# Altium integrated library Resistors.IntLib: 4954 symbols (part 18 of 32)
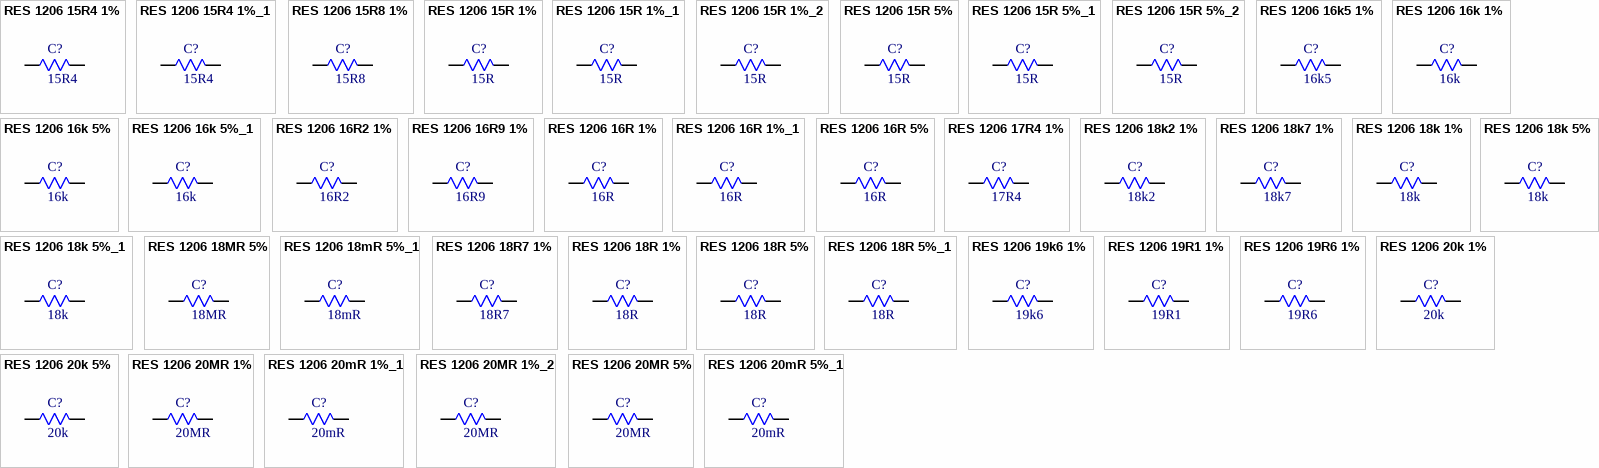
[diagram p140: symbols RES 1206 15R4 1% to RES 1206 20mR 5%_1]

## RES 1206 20MR 5%
designator C?, comment 20MR
20MR 5% 250mW 1206 Thick Film Resistor; Manufacturer: FOJAN; Manufacturer Part Number: FRG1206J206 TS; Voltage Rating: 200V; Supplier: LCSC; Supplier Part Number: C5126034; Resistance: 20MR; Tolerance: 5%; Power: 250mW
footprint RES SMD 1206
pins: 1, 2

## RES 1206 20mR 5%_1
designator C?, comment 20mR
20mR 250mW Thick Film Resistor 1200ppm/â„ƒ 5% 1206 Chip Resistor - Surface Mount RoHS; Manufacturer: FOJAN; Manufacturer Part Number: FRL1206JR020TS; Supplier: LCSC; Supplier Part Number: C7467502; Resistance: 20mR; Tolerance: 5%; Power: 250mW
footprint RES SMD 1206
pins: 1, 2

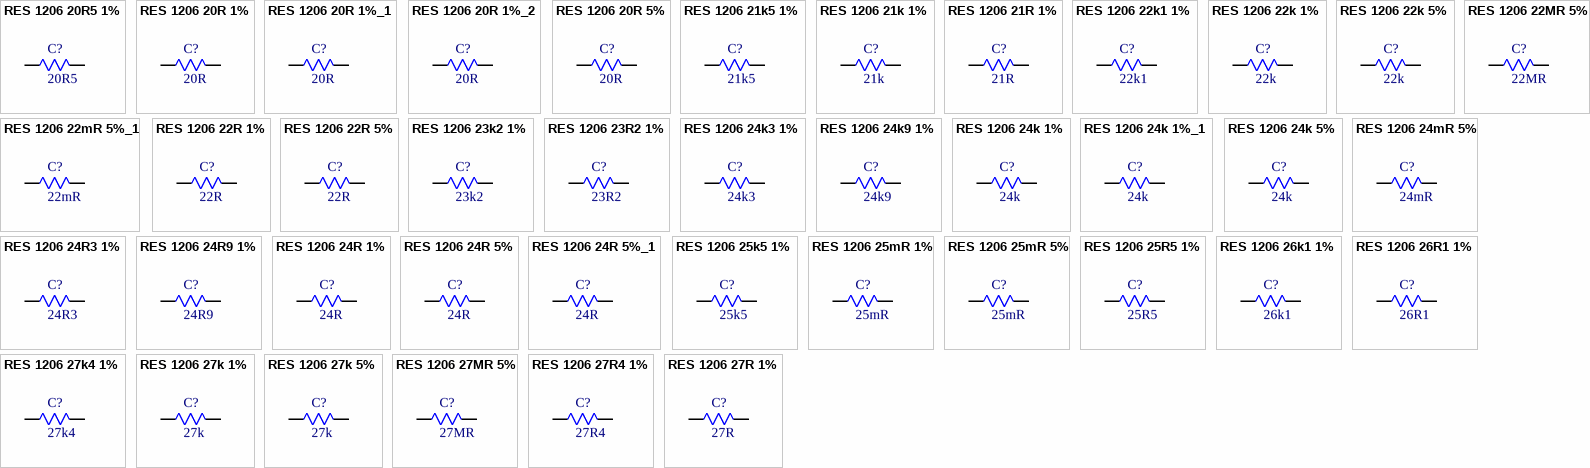
[diagram p68: symbols RES 1206 20R5 1% to RES 1206 27R 1%]

## RES 1206 20R5 1%
designator C?, comment 20R5
20.5R 1% 250mW 1206 Thick Film Resistor; Manufacturer: FOJAN; Manufacturer Part Number: FRC1206F20R5TS; Voltage Rating: 200V; Supplier: LCSC; Supplier Part Number: C2930417; Resistance: 20R5; Tolerance: 1%; Power: 250mW
footprint RES SMD 1206
pins: 1, 2

## RES 1206 20R 1%
designator C?, comment 20R
20R 1% 500mW 1206 Thick Film Resistor; Manufacturer: FOJAN; Manufacturer Part Number: FRP1206F20R0TS; Voltage Rating: 200V; Supplier: LCSC; Supplier Part Number: C5713418; Resistance: 20R; Tolerance: 1%; Power: 500mW
footprint RES SMD 1206
pins: 1, 2

## RES 1206 20R 1%_1
designator C?, comment 20R
20R 1% 250mW 1206 Thick Film Resistor; Manufacturer: FOJAN; Manufacturer Part Number: FRC1206F20R0TS; Voltage Rating: 200V; Supplier: LCSC; Supplier Part Number: C2933638; Resistance: 20R; Tolerance: 1%; Power: 250mW
footprint RES SMD 1206
pins: 1, 2

## RES 1206 20R 1%_2
designator C?, comment 20R
20R 250mW 200V Thick Film Resistor 1% 1206 Chip Resistor - Surface Mount RoHS; Manufacturer: FOJAN; Manufacturer Part Number: FRQ1206F20R0TS; Supplier: LCSC; Supplier Part Number: C51048301; Resistance: 20R; Tolerance: 1%; Voltage Rating: 200V; Power: 250mW
footprint RES SMD 1206
pins: 1, 2

## RES 1206 20R 5%
designator C?, comment 20R
20R 5% 250mW 1206 Thick Film Resistor; Manufacturer: FOJAN; Manufacturer Part Number: FRD1206J200 TS; Voltage Rating: 200V; Supplier: LCSC; Supplier Part Number: C2934206; Resistance: 20R; Tolerance: 5%; Power: 250mW
footprint RES SMD 1206
pins: 1, 2

## RES 1206 21k5 1%
designator C?, comment 21k5
21.5kR 250mW 200V Thick Film Resistor 1% 100ppm/â„ƒ 1206 Chip Resistor - Surface Mount RoHS; Manufacturer: FOJAN; Manufacturer Part Number: FRC1206F2152TS; Supplier: LCSC; Supplier Part Number: C7467334; Resistance: 21k5; Tolerance: 1%; Voltage Rating: 200V; Power: 250mW
footprint RES SMD 1206
pins: 1, 2

## RES 1206 21k 1%
designator C?, comment 21k
21kR 1% 250mW 1206 Thick Film Resistor; Manufacturer: FOJAN; Manufacturer Part Number: FRC1206F2102TS; Voltage Rating: 200V; Supplier: LCSC; Supplier Part Number: C3000607; Resistance: 21k; Tolerance: 1%; Power: 250mW
footprint RES SMD 1206
pins: 1, 2

## RES 1206 21R 1%
designator C?, comment 21R
21R 1% 250mW 1206 Thick Film Resistor; Manufacturer: FOJAN; Manufacturer Part Number: FRC1206F21R0TS; Voltage Rating: 200V; Supplier: LCSC; Supplier Part Number: C2933641; Resistance: 21R; Tolerance: 1%; Power: 250mW
footprint RES SMD 1206
pins: 1, 2

## RES 1206 22k1 1%
designator C?, comment 22k1
22.1kR 1% 250mW 1206 Thick Film Resistor; Manufacturer: FOJAN; Manufacturer Part Number: FRC1206F2212TS; Voltage Rating: 200V; Supplier: LCSC; Supplier Part Number: C2933645; Resistance: 22k1; Tolerance: 1%; Power: 250mW
footprint RES SMD 1206
pins: 1, 2

## RES 1206 22k 1%
designator C?, comment 22k
22kR 1% 250mW 1206 Thick Film Resistor; Manufacturer: FOJAN; Manufacturer Part Number: FRC1206F2202TS; Voltage Rating: 200V; Supplier: LCSC; Supplier Part Number: C2907375; Resistance: 22k; Tolerance: 1%; Power: 250mW
footprint RES SMD 1206
pins: 1, 2

## RES 1206 22k 5%
designator C?, comment 22k
22kR 5% 250mW 1206 Thick Film Resistor; Manufacturer: FOJAN; Manufacturer Part Number: FRC1206J223 TS; Voltage Rating: 200V; Supplier: LCSC; Supplier Part Number: C2907456; Resistance: 22k; Tolerance: 5%; Power: 250mW
footprint RES SMD 1206
pins: 1, 2

## RES 1206 22MR 5%
designator C?, comment 22MR
22MR 5% 250mW 1206 Thick Film Resistor; Manufacturer: FOJAN; Manufacturer Part Number: FRG1206J226TS; Voltage Rating: 200V; Supplier: LCSC; Supplier Part Number: C3000525; Resistance: 22MR; Tolerance: 5%; Power: 250mW
footprint RES SMD 1206
pins: 1, 2

## RES 1206 22mR 5%_1
designator C?, comment 22mR
22mR 250mW Thick Film Resistor 1200ppm/â„ƒ 5% 1206 Chip Resistor - Surface Mount RoHS; Manufacturer: FOJAN; Manufacturer Part Number: FRL1206JR022TS; Supplier: LCSC; Supplier Part Number: C7467500; Resistance: 22mR; Tolerance: 5%; Power: 250mW
footprint RES SMD 1206
pins: 1, 2

## RES 1206 22R 1%
designator C?, comment 22R
22R 1% 250mW 1206 Thick Film Resistor; Manufacturer: FOJAN; Manufacturer Part Number: FRC1206F22R0TS; Voltage Rating: 200V; Supplier: LCSC; Supplier Part Number: C2933647; Resistance: 22R; Tolerance: 1%; Power: 250mW
footprint RES SMD 1206
pins: 1, 2

## RES 1206 22R 5%
designator C?, comment 22R
22R 5% 250mW 1206 Thick Film Resistor; Manufacturer: FOJAN; Manufacturer Part Number: FRD1206J220 TS; Voltage Rating: 200V; Supplier: LCSC; Supplier Part Number: C2934211; Resistance: 22R; Tolerance: 5%; Power: 250mW
footprint RES SMD 1206
pins: 1, 2

## RES 1206 23k2 1%
designator C?, comment 23k2
23.2kR 1% 250mW 1206 Thick Film Resistor; Manufacturer: FOJAN; Manufacturer Part Number: FRC1206F2322TS; Voltage Rating: 200V; Supplier: LCSC; Supplier Part Number: C5159732; Resistance: 23k2; Tolerance: 1%; Power: 250mW
footprint RES SMD 1206
pins: 1, 2

## RES 1206 23R2 1%
designator C?, comment 23R2
23.2R 1% 250mW 1206 Thick Film Resistor; Manufacturer: FOJAN; Manufacturer Part Number: FRC1206F23R2TS; Voltage Rating: 200V; Supplier: LCSC; Supplier Part Number: C2933648; Resistance: 23R2; Tolerance: 1%; Power: 250mW
footprint RES SMD 1206
pins: 1, 2

## RES 1206 24k3 1%
designator C?, comment 24k3
24.3kR 1% 250mW 1206 Thick Film Resistor; Manufacturer: FOJAN; Manufacturer Part Number: FRC1206F2432TS; Voltage Rating: 200V; Supplier: LCSC; Supplier Part Number: C2933651; Resistance: 24k3; Tolerance: 1%; Power: 250mW
footprint RES SMD 1206
pins: 1, 2

## RES 1206 24k9 1%
designator C?, comment 24k9
24.9kR 1% 250mW 1206 Thick Film Resistor; Manufacturer: FOJAN; Manufacturer Part Number: FRC1206F2492TS; Voltage Rating: 200V; Supplier: LCSC; Supplier Part Number: C2930420; Resistance: 24k9; Tolerance: 1%; Power: 250mW
footprint RES SMD 1206
pins: 1, 2

## RES 1206 24k 1%
designator C?, comment 24k
24kR 1% 250mW 1206 Thick Film Resistor; Manufacturer: FOJAN; Manufacturer Part Number: FRC1206F2402TS; Voltage Rating: 200V; Supplier: LCSC; Supplier Part Number: C2907377; Resistance: 24k; Tolerance: 1%; Power: 250mW
footprint RES SMD 1206
pins: 1, 2

## RES 1206 24k 1%_1
designator C?, comment 24k
24kR 500mW 200V Thick Film Resistor 1% 1206 Chip Resistor - Surface Mount RoHS; Manufacturer: FOJAN; Manufacturer Part Number: FRP1206F2402TS; Supplier: LCSC; Supplier Part Number: C52033548; Resistance: 24k; Tolerance: 1%; Voltage Rating: 200V; Power: 500mW
footprint RES SMD 1206
pins: 1, 2

## RES 1206 24k 5%
designator C?, comment 24k
24kR 5% 250mW 1206 Thick Film Resistor; Manufacturer: FOJAN; Manufacturer Part Number: FRC1206J243 TS; Voltage Rating: 200V; Supplier: LCSC; Supplier Part Number: C2907460; Resistance: 24k; Tolerance: 5%; Power: 250mW
footprint RES SMD 1206
pins: 1, 2

## RES 1206 24mR 5%
designator C?, comment 24mR
250mW 24mR Thick Film Resistor 1200ppm/â„ƒ 5% 1206 Chip Resistor - Surface Mount RoHS; Manufacturer: FOJAN; Manufacturer Part Number: FRL1206JR024TS; Supplier: LCSC; Supplier Part Number: C7467517; Resistance: 24mR; Tolerance: 5%; Power: 250mW
footprint RES SMD 1206
pins: 1, 2

## RES 1206 24R3 1%
designator C?, comment 24R3
250mW 24.3R Thick Film Resistor 1% 100ppm/â„ƒ 1206 Chip Resistor - Surface Mount RoHS; Manufacturer: FOJAN; Manufacturer Part Number: FRC1206F24R3TS; Supplier: LCSC; Supplier Part Number: C7467296; Resistance: 24R3; Tolerance: 1%; Power: 250mW
footprint RES SMD 1206
pins: 1, 2

## RES 1206 24R9 1%
designator C?, comment 24R9
24.9R 1% 250mW 1206 Thick Film Resistor; Manufacturer: FOJAN; Manufacturer Part Number: FRC1206F24R9TS; Voltage Rating: 200V; Supplier: LCSC; Supplier Part Number: C5153988; Resistance: 24R9; Tolerance: 1%; Power: 250mW
footprint RES SMD 1206
pins: 1, 2

## RES 1206 24R 1%
designator C?, comment 24R
24R 1% 250mW 1206 Thick Film Resistor; Manufacturer: FOJAN; Manufacturer Part Number: FRC1206F24R0TS; Voltage Rating: 200V; Supplier: LCSC; Supplier Part Number: C2930421; Resistance: 24R; Tolerance: 1%; Power: 250mW
footprint RES SMD 1206
pins: 1, 2

## RES 1206 24R 5%
designator C?, comment 24R
24R 5% 250mW 1206 Thick Film Resistor; Manufacturer: FOJAN; Manufacturer Part Number: FRC1206J240 TS; Voltage Rating: 200V; Supplier: LCSC; Supplier Part Number: C2907461; Resistance: 24R; Tolerance: 5%; Power: 250mW
footprint RES SMD 1206
pins: 1, 2

## RES 1206 24R 5%_1
designator C?, comment 24R
24R 5% 250mW 1206 Thick Film Resistor; Manufacturer: FOJAN; Manufacturer Part Number: FRC1206J240TSD; Voltage Rating: 200V; Supplier: LCSC; Supplier Part Number: C2930361; Resistance: 24R; Tolerance: 5%; Power: 250mW
footprint RES SMD 1206
pins: 1, 2

## RES 1206 25k5 1%
designator C?, comment 25k5
25.5kR 1% 250mW 1206 Thick Film Resistor; Manufacturer: FOJAN; Manufacturer Part Number: FRC1206F2552TS; Voltage Rating: 200V; Supplier: LCSC; Supplier Part Number: C3000609; Resistance: 25k5; Tolerance: 1%; Power: 250mW
footprint RES SMD 1206
pins: 1, 2

## RES 1206 25mR 1%
designator C?, comment 25mR
25mR 250mW Thick Film Resistor 1200ppm/â„ƒ 1% 1206 Chip Resistor - Surface Mount RoHS; Manufacturer: FOJAN; Manufacturer Part Number: FRL1206FR025TS; Supplier: LCSC; Supplier Part Number: C7467303; Resistance: 25mR; Tolerance: 1%; Power: 250mW
footprint RES SMD 1206
pins: 1, 2

## RES 1206 25mR 5%
designator C?, comment 25mR
25mR 250mW Thick Film Resistor 1200ppm/â„ƒ 5% 1206 Chip Resistor - Surface Mount RoHS; Manufacturer: FOJAN; Manufacturer Part Number: FRL1206JR025TS; Supplier: LCSC; Supplier Part Number: C7467627; Resistance: 25mR; Tolerance: 5%; Power: 250mW
footprint RES SMD 1206
pins: 1, 2

## RES 1206 25R5 1%
designator C?, comment 25R5
250mW 25.5R 200V Thick Film Resistor 1% 100ppm/â„ƒ 1206 Chip Resistor - Surface Mount RoHS; Manufacturer: FOJAN; Manufacturer Part Number: FRC1206F25R5TS; Supplier: LCSC; Supplier Part Number: C7467464; Resistance: 25R5; Tolerance: 1%; Voltage Rating: 200V; Power: 250mW
footprint RES SMD 1206
pins: 1, 2

## RES 1206 26k1 1%
designator C?, comment 26k1
26.1kR 1% 250mW 1206 Thick Film Resistor; Manufacturer: FOJAN; Manufacturer Part Number: FRC1206F2612TS; Voltage Rating: 200V; Supplier: LCSC; Supplier Part Number: C2933653; Resistance: 26k1; Tolerance: 1%; Power: 250mW
footprint RES SMD 1206
pins: 1, 2

## RES 1206 26R1 1%
designator C?, comment 26R1
26.1R 1% 250mW 1206 Thick Film Resistor; Manufacturer: FOJAN; Manufacturer Part Number: FRC1206F26R1TS; Voltage Rating: 200V; Supplier: LCSC; Supplier Part Number: C2933654; Resistance: 26R1; Tolerance: 1%; Power: 250mW
footprint RES SMD 1206
pins: 1, 2

## RES 1206 27k4 1%
designator C?, comment 27k4
27.4kR 1% 250mW 1206 Thick Film Resistor; Manufacturer: FOJAN; Manufacturer Part Number: FRC1206F2742TS; Voltage Rating: 200V; Supplier: LCSC; Supplier Part Number: C2999476; Resistance: 27k4; Tolerance: 1%; Power: 250mW
footprint RES SMD 1206
pins: 1, 2

## RES 1206 27k 1%
designator C?, comment 27k
27kR 1% 250mW 1206 Thick Film Resistor; Manufacturer: FOJAN; Manufacturer Part Number: FRC1206F2702TS; Voltage Rating: 200V; Supplier: LCSC; Supplier Part Number: C2960927; Resistance: 27k; Tolerance: 1%; Power: 250mW
footprint RES SMD 1206
pins: 1, 2

## RES 1206 27k 5%
designator C?, comment 27k
27kR 5% 250mW 1206 Thick Film Resistor; Manufacturer: FOJAN; Manufacturer Part Number: FRC1206J273 TS; Voltage Rating: 200V; Supplier: LCSC; Supplier Part Number: C2907464; Resistance: 27k; Tolerance: 5%; Power: 250mW
footprint RES SMD 1206
pins: 1, 2

## RES 1206 27MR 5%
designator C?, comment 27MR
27MR 5% 250mW 1206 Thick Film Resistor; Manufacturer: FOJAN; Manufacturer Part Number: FRG1206J276 TS; Voltage Rating: 200V; Supplier: LCSC; Supplier Part Number: C5126112; Resistance: 27MR; Tolerance: 5%; Power: 250mW
footprint RES SMD 1206
pins: 1, 2

## RES 1206 27R4 1%
designator C?, comment 27R4
27.4R 1% 250mW 1206 Thick Film Resistor; Manufacturer: FOJAN; Manufacturer Part Number: FRC1206F27R4TS; Voltage Rating: 200V; Supplier: LCSC; Supplier Part Number: C3013249; Resistance: 27R4; Tolerance: 1%; Power: 250mW
footprint RES SMD 1206
pins: 1, 2

## RES 1206 27R 1%
designator C?, comment 27R
27R 1% 250mW 1206 Thick Film Resistor; Manufacturer: FOJAN; Manufacturer Part Number: FRC1206F27R0TS; Voltage Rating: 200V; Supplier: LCSC; Supplier Part Number: C2933656; Resistance: 27R; Tolerance: 1%; Power: 250mW
footprint RES SMD 1206
pins: 1, 2

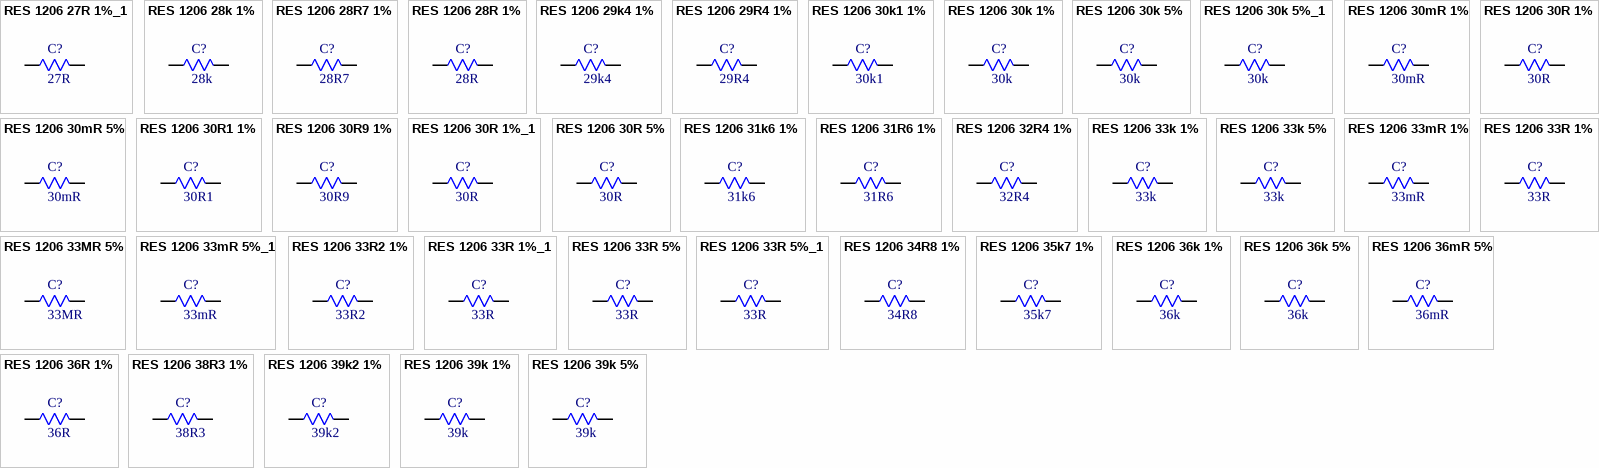
[diagram p69: symbols RES 1206 27R 1%_1 to RES 1206 39k 5%]

## RES 1206 27R 1%_1
designator C?, comment 27R
250mW 27R 200V Thick Film Resistor 1% 1206 Chip Resistor - Surface Mount RoHS; Manufacturer: FOJAN; Manufacturer Part Number: FRQ1206F27R0TS; Supplier: LCSC; Supplier Part Number: C51048245; Resistance: 27R; Tolerance: 1%; Voltage Rating: 200V; Power: 250mW
footprint RES SMD 1206
pins: 1, 2

## RES 1206 28k 1%
designator C?, comment 28k
28kR 1% 250mW 1206 Thick Film Resistor; Manufacturer: FOJAN; Manufacturer Part Number: FRC1206F2802TS; Voltage Rating: 200V; Supplier: LCSC; Supplier Part Number: C2999528; Resistance: 28k; Tolerance: 1%; Power: 250mW
footprint RES SMD 1206
pins: 1, 2

## RES 1206 28R7 1%
designator C?, comment 28R7
28.7R 1% 250mW 1206 Thick Film Resistor; Manufacturer: FOJAN; Manufacturer Part Number: FRC1206F28R7TS; Voltage Rating: 200V; Supplier: LCSC; Supplier Part Number: C5126060; Resistance: 28R7; Tolerance: 1%; Power: 250mW
footprint RES SMD 1206
pins: 1, 2

## RES 1206 28R 1%
designator C?, comment 28R
28R 1% 250mW 1206 Thick Film Resistor; Manufacturer: FOJAN; Manufacturer Part Number: FRC1206F28R0TS; Voltage Rating: 200V; Supplier: LCSC; Supplier Part Number: C2933658; Resistance: 28R; Tolerance: 1%; Power: 250mW
footprint RES SMD 1206
pins: 1, 2

## RES 1206 29k4 1%
designator C?, comment 29k4
29.4kR 1% 250mW 1206 Thick Film Resistor; Manufacturer: FOJAN; Manufacturer Part Number: FRC1206F2942TS; Voltage Rating: 200V; Supplier: LCSC; Supplier Part Number: C2999535; Resistance: 29k4; Tolerance: 1%; Power: 250mW
footprint RES SMD 1206
pins: 1, 2

## RES 1206 29R4 1%
designator C?, comment 29R4
29.4R 1% 250mW 1206 Thick Film Resistor; Manufacturer: FOJAN; Manufacturer Part Number: FRC1206F29R4TS; Voltage Rating: 200V; Supplier: LCSC; Supplier Part Number: C2933660; Resistance: 29R4; Tolerance: 1%; Power: 250mW
footprint RES SMD 1206
pins: 1, 2

## RES 1206 30k1 1%
designator C?, comment 30k1
250mW 30.1kR 200V Thick Film Resistor 100ppm/â„ƒ 1% 1206 Chip Resistor - Surface Mount RoHS; Manufacturer: FOJAN; Manufacturer Part Number: FRC1206F3012TS; Supplier: LCSC; Supplier Part Number: C48533691; Resistance: 30k1; Tolerance: 1%; Voltage Rating: 200V; Power: 250mW
footprint RES SMD 1206
pins: 1, 2

## RES 1206 30k 1%
designator C?, comment 30k
30kR 1% 250mW 1206 Thick Film Resistor; Manufacturer: FOJAN; Manufacturer Part Number: FRC1206F3002TS; Voltage Rating: 200V; Supplier: LCSC; Supplier Part Number: C2930422; Resistance: 30k; Tolerance: 1%; Power: 250mW
footprint RES SMD 1206
pins: 1, 2

## RES 1206 30k 5%
designator C?, comment 30k
30kR 5% 250mW 1206 Thick Film Resistor; Manufacturer: FOJAN; Manufacturer Part Number: FRC1206J303 TS; Voltage Rating: 200V; Supplier: LCSC; Supplier Part Number: C2907479; Resistance: 30k; Tolerance: 5%; Power: 250mW
footprint RES SMD 1206
pins: 1, 2

## RES 1206 30k 5%_1
designator C?, comment 30k
30kR 5% 500mW 1206 Thick Film Resistor; Manufacturer: FOJAN; Manufacturer Part Number: FRP1206J303 TS; Voltage Rating: 200V; Supplier: LCSC; Supplier Part Number: C3013378; Resistance: 30k; Tolerance: 5%; Power: 500mW
footprint RES SMD 1206
pins: 1, 2

## RES 1206 30mR 1%
designator C?, comment 30mR
30mR 250mW Thick Film Resistor 1200ppm/â„ƒ 1% 1206 Chip Resistor - Surface Mount RoHS; Manufacturer: FOJAN; Manufacturer Part Number: FRL1206FR030TS; Supplier: LCSC; Supplier Part Number: C7467634; Resistance: 30mR; Tolerance: 1%; Power: 250mW
footprint RES SMD 1206
pins: 1, 2

## RES 1206 30mR 5%
designator C?, comment 30mR
30mR 250mW Thick Film Resistor 1200ppm/â„ƒ 5% 1206 Chip Resistor - Surface Mount RoHS; Manufacturer: FOJAN; Manufacturer Part Number: FRL1206JR030TS; Supplier: LCSC; Supplier Part Number: C7467558; Resistance: 30mR; Tolerance: 5%; Power: 250mW
footprint RES SMD 1206
pins: 1, 2

## RES 1206 30R1 1%
designator C?, comment 30R1
30.1R 1% 250mW 1206 Thick Film Resistor; Manufacturer: FOJAN; Manufacturer Part Number: FRC1206F30R1TS; Voltage Rating: 200V; Supplier: LCSC; Supplier Part Number: C42372176; Resistance: 30R1; Tolerance: 1%; Power: 250mW
footprint RES SMD 1206
pins: 1, 2

## RES 1206 30R9 1%
designator C?, comment 30R9
30.9R 1% 250mW 1206 Thick Film Resistor; Manufacturer: FOJAN; Manufacturer Part Number: FRC1206F30R9TS; Voltage Rating: 200V; Supplier: LCSC; Supplier Part Number: C2960740; Resistance: 30R9; Tolerance: 1%; Power: 250mW
footprint RES SMD 1206
pins: 1, 2

## RES 1206 30R 1%
designator C?, comment 30R
30R 1% 250mW 1206 Thick Film Resistor; Manufacturer: FOJAN; Manufacturer Part Number: FRC1206F30R0TS; Voltage Rating: 200V; Supplier: LCSC; Supplier Part Number: C2930423; Resistance: 30R; Tolerance: 1%; Power: 250mW
footprint RES SMD 1206
pins: 1, 2

## RES 1206 30R 1%_1
designator C?, comment 30R
30R 1% 500mW 1206 Thick Film Resistor; Manufacturer: FOJAN; Manufacturer Part Number: FRP1206F30R0TS; Voltage Rating: 200V; Supplier: LCSC; Supplier Part Number: C5713419; Resistance: 30R; Tolerance: 1%; Power: 500mW
footprint RES SMD 1206
pins: 1, 2

## RES 1206 30R 5%
designator C?, comment 30R
30R 5% 250mW 1206 Thick Film Resistor; Manufacturer: FOJAN; Manufacturer Part Number: FRC1206J300 TS; Voltage Rating: 200V; Supplier: LCSC; Supplier Part Number: C2907480; Resistance: 30R; Tolerance: 5%; Power: 250mW
footprint RES SMD 1206
pins: 1, 2

## RES 1206 31k6 1%
designator C?, comment 31k6
250mW 31.6kR 200V Thick Film Resistor 1% 100ppm/â„ƒ 1206 Chip Resistor - Surface Mount RoHS; Manufacturer: FOJAN; Manufacturer Part Number: FRC1206F3162TS; Supplier: LCSC; Supplier Part Number: C7467453; Resistance: 31k6; Tolerance: 1%; Voltage Rating: 200V; Power: 250mW
footprint RES SMD 1206
pins: 1, 2

## RES 1206 31R6 1%
designator C?, comment 31R6
31.6R 1% 250mW 1206 Thick Film Resistor; Manufacturer: FOJAN; Manufacturer Part Number: FRC1206F31R6TS; Voltage Rating: 200V; Supplier: LCSC; Supplier Part Number: C2933674; Resistance: 31R6; Tolerance: 1%; Power: 250mW
footprint RES SMD 1206
pins: 1, 2

## RES 1206 32R4 1%
designator C?, comment 32R4
32.4R 1% 250mW 1206 Thick Film Resistor; Manufacturer: FOJAN; Manufacturer Part Number: FRC1206F32R4TS; Voltage Rating: 200V; Supplier: LCSC; Supplier Part Number: C2960783; Resistance: 32R4; Tolerance: 1%; Power: 250mW
footprint RES SMD 1206
pins: 1, 2

## RES 1206 33k 1%
designator C?, comment 33k
33kR 1% 250mW 1206 Thick Film Resistor; Manufacturer: FOJAN; Manufacturer Part Number: FRC1206F3302TS; Voltage Rating: 200V; Supplier: LCSC; Supplier Part Number: C2933676; Resistance: 33k; Tolerance: 1%; Power: 250mW
footprint RES SMD 1206
pins: 1, 2

## RES 1206 33k 5%
designator C?, comment 33k
33kR 5% 250mW 1206 Thick Film Resistor; Manufacturer: FOJAN; Manufacturer Part Number: FRC1206J333 TS; Voltage Rating: 200V; Supplier: LCSC; Supplier Part Number: C2907483; Resistance: 33k; Tolerance: 5%; Power: 250mW
footprint RES SMD 1206
pins: 1, 2

## RES 1206 33mR 1%
designator C?, comment 33mR
250mW 33mR Thick Film Resistor 1200ppm/â„ƒ 1% 1206 Chip Resistor - Surface Mount RoHS; Manufacturer: FOJAN; Manufacturer Part Number: FRL1206FR033TS; Supplier: LCSC; Supplier Part Number: C7467307; Resistance: 33mR; Tolerance: 1%; Power: 250mW
footprint RES SMD 1206
pins: 1, 2

## RES 1206 33MR 5%
designator C?, comment 33MR
33MR 5% 250mW 1206 Thick Film Resistor; Manufacturer: FOJAN; Manufacturer Part Number: FRG1206J336TS; Voltage Rating: 200V; Supplier: LCSC; Supplier Part Number: C3000700; Resistance: 33MR; Tolerance: 5%; Power: 250mW
footprint RES SMD 1206
pins: 1, 2

## RES 1206 33mR 5%_1
designator C?, comment 33mR
250mW 33mR Thick Film Resistor 1200ppm/â„ƒ 5% 1206 Chip Resistor - Surface Mount RoHS; Manufacturer: FOJAN; Manufacturer Part Number: FRL1206JR033TS; Supplier: LCSC; Supplier Part Number: C7467574; Resistance: 33mR; Tolerance: 5%; Power: 250mW
footprint RES SMD 1206
pins: 1, 2

## RES 1206 33R2 1%
designator C?, comment 33R2
33.2R 1% 250mW 1206 Thick Film Resistor; Manufacturer: FOJAN; Manufacturer Part Number: FRC1206F33R2TS; Voltage Rating: 200V; Supplier: LCSC; Supplier Part Number: C2999543; Resistance: 33R2; Tolerance: 1%; Power: 250mW
footprint RES SMD 1206
pins: 1, 2

## RES 1206 33R 1%
designator C?, comment 33R
33R 1% 250mW 1206 Thick Film Resistor; Manufacturer: FOJAN; Manufacturer Part Number: FRC1206F33R0TS; Voltage Rating: 200V; Supplier: LCSC; Supplier Part Number: C2907384; Resistance: 33R; Tolerance: 1%; Power: 250mW
footprint RES SMD 1206
pins: 1, 2

## RES 1206 33R 1%_1
designator C?, comment 33R
33R 1% 500mW 1206 Thick Film Resistor; Manufacturer: FOJAN; Manufacturer Part Number: FRP1206F33R0TS; Voltage Rating: 200V; Supplier: LCSC; Supplier Part Number: C5713420; Resistance: 33R; Tolerance: 1%; Power: 500mW
footprint RES SMD 1206
pins: 1, 2

## RES 1206 33R 5%
designator C?, comment 33R
33R 5% 250mW 1206 Thick Film Resistor; Manufacturer: FOJAN; Manufacturer Part Number: FRC1206J330 TS; Voltage Rating: 200V; Supplier: LCSC; Supplier Part Number: C2907484; Resistance: 33R; Tolerance: 5%; Power: 250mW
footprint RES SMD 1206
pins: 1, 2

## RES 1206 33R 5%_1
designator C?, comment 33R
33R 500mW Thick Film Resistor 200ppm/â„ƒ 5% 1206 Chip Resistor - Surface Mount RoHS; Manufacturer: FOJAN; Manufacturer Part Number: FRP1206J330 TS; Supplier: LCSC; Supplier Part Number: C7468091; Resistance: 33R; Tolerance: 5%; Power: 500mW
footprint RES SMD 1206
pins: 1, 2

## RES 1206 34R8 1%
designator C?, comment 34R8
34.8R 1% 250mW 1206 Thick Film Resistor; Manufacturer: FOJAN; Manufacturer Part Number: FRC1206F34R8TS; Voltage Rating: 200V; Supplier: LCSC; Supplier Part Number: C2933681; Resistance: 34R8; Tolerance: 1%; Power: 250mW
footprint RES SMD 1206
pins: 1, 2

## RES 1206 35k7 1%
designator C?, comment 35k7
35.7kR 1% 250mW 1206 Thick Film Resistor; Manufacturer: FOJAN; Manufacturer Part Number: FRC1206F3572TS; Voltage Rating: 200V; Supplier: LCSC; Supplier Part Number: C5126182; Resistance: 35k7; Tolerance: 1%; Power: 250mW
footprint RES SMD 1206
pins: 1, 2

## RES 1206 36k 1%
designator C?, comment 36k
500mW 36kR 200V Thick Film Resistor 200ppm/â„ƒ 1% 1206 Chip Resistor - Surface Mount RoHS; Manufacturer: FOJAN; Manufacturer Part Number: FRP1206F3602TS; Supplier: LCSC; Supplier Part Number: C49196875; Resistance: 36k; Tolerance: 1%; Voltage Rating: 200V; Power: 500mW
footprint RES SMD 1206
pins: 1, 2

## RES 1206 36k 5%
designator C?, comment 36k
36kR 5% 250mW 1206 Thick Film Resistor; Manufacturer: FOJAN; Manufacturer Part Number: FRC1206J363 TS; Voltage Rating: 200V; Supplier: LCSC; Supplier Part Number: C2907487; Resistance: 36k; Tolerance: 5%; Power: 250mW
footprint RES SMD 1206
pins: 1, 2

## RES 1206 36mR 5%
designator C?, comment 36mR
250mW 36mR Thick Film Resistor 1200ppm/â„ƒ 5% 1206 Chip Resistor - Surface Mount RoHS; Manufacturer: FOJAN; Manufacturer Part Number: FRL1206JR036TS; Supplier: LCSC; Supplier Part Number: C7467506; Resistance: 36mR; Tolerance: 5%; Power: 250mW
footprint RES SMD 1206
pins: 1, 2

## RES 1206 36R 1%
designator C?, comment 36R
36R 1% 250mW 1206 Thick Film Resistor; Manufacturer: FOJAN; Manufacturer Part Number: FRC1206F36R0TS; Voltage Rating: 200V; Supplier: LCSC; Supplier Part Number: C2907385; Resistance: 36R; Tolerance: 1%; Power: 250mW
footprint RES SMD 1206
pins: 1, 2

## RES 1206 38R3 1%
designator C?, comment 38R3
38.3R 1% 250mW 1206 Thick Film Resistor; Manufacturer: FOJAN; Manufacturer Part Number: FRC1206F38R3TS; Voltage Rating: 200V; Supplier: LCSC; Supplier Part Number: C2930425; Resistance: 38R3; Tolerance: 1%; Power: 250mW
footprint RES SMD 1206
pins: 1, 2

## RES 1206 39k2 1%
designator C?, comment 39k2
39.2kR 1% 250mW 1206 Thick Film Resistor; Manufacturer: FOJAN; Manufacturer Part Number: FRC1206F3922TS; Voltage Rating: 200V; Supplier: LCSC; Supplier Part Number: C3000747; Resistance: 39k2; Tolerance: 1%; Power: 250mW
footprint RES SMD 1206
pins: 1, 2

## RES 1206 39k 1%
designator C?, comment 39k
39kR 1% 250mW 1206 Thick Film Resistor; Manufacturer: FOJAN; Manufacturer Part Number: FRC1206F3902TS; Voltage Rating: 200V; Supplier: LCSC; Supplier Part Number: C2933691; Resistance: 39k; Tolerance: 1%; Power: 250mW
footprint RES SMD 1206
pins: 1, 2

## RES 1206 39k 5%
designator C?, comment 39k
39kR 5% 250mW 1206 Thick Film Resistor; Manufacturer: FOJAN; Manufacturer Part Number: FRC1206J393 TS; Voltage Rating: 200V; Supplier: LCSC; Supplier Part Number: C2907491; Resistance: 39k; Tolerance: 5%; Power: 250mW
footprint RES SMD 1206
pins: 1, 2

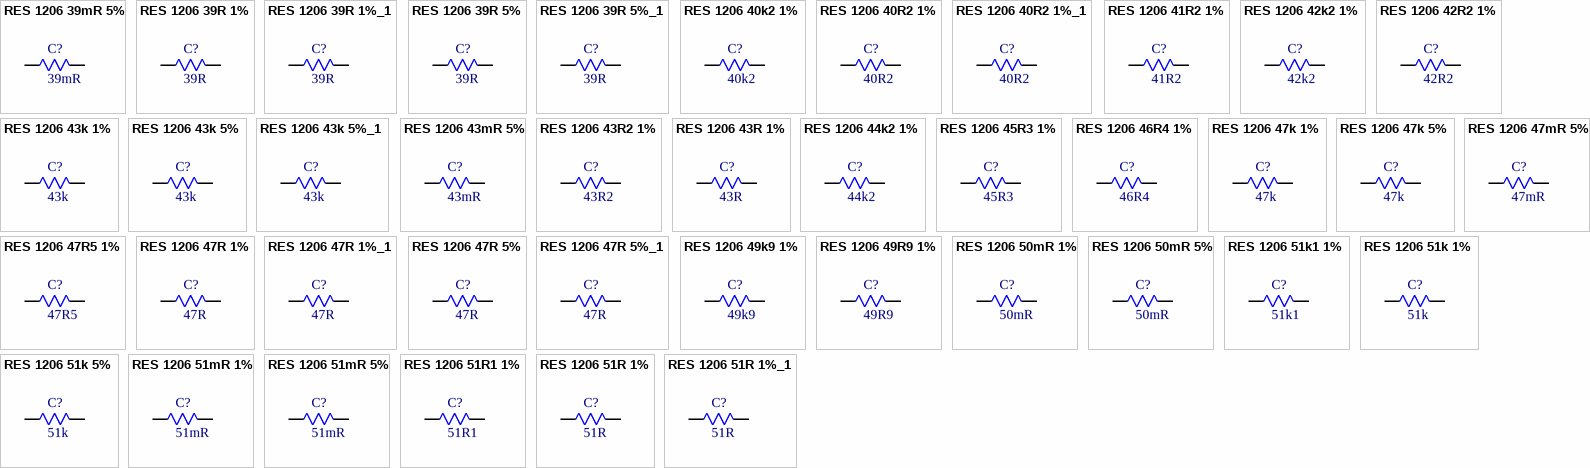
[diagram p70: symbols RES 1206 39mR 5% to RES 1206 51R 1%_1]

## RES 1206 39mR 5%
designator C?, comment 39mR
39mR 5% 250mW 1206 Thick Film Resistor; Manufacturer: FOJAN; Manufacturer Part Number: FRL1206JR039TS; Voltage Rating: 500V; Supplier: LCSC; Supplier Part Number: C5204044; Resistance: 39mR; Tolerance: 5%; Power: 250mW
footprint RES SMD 1206
pins: 1, 2

## RES 1206 39R 1%
designator C?, comment 39R
39R 1% 250mW 1206 Thick Film Resistor; Manufacturer: FOJAN; Manufacturer Part Number: FRC1206F39R0TS; Voltage Rating: 200V; Supplier: LCSC; Supplier Part Number: C2933694; Resistance: 39R; Tolerance: 1%; Power: 250mW
footprint RES SMD 1206
pins: 1, 2

## RES 1206 39R 1%_1
designator C?, comment 39R
39R 250mW 200V Thick Film Resistor 1% 1206 Chip Resistor - Surface Mount RoHS; Manufacturer: FOJAN; Manufacturer Part Number: FRQ1206F39R0TS; Supplier: LCSC; Supplier Part Number: C51048300; Resistance: 39R; Tolerance: 1%; Voltage Rating: 200V; Power: 250mW
footprint RES SMD 1206
pins: 1, 2

## RES 1206 39R 5%
designator C?, comment 39R
39R 5% 500mW 1206 Thick Film Resistor; Manufacturer: FOJAN; Manufacturer Part Number: FRP1206J390 TS; Voltage Rating: 200V; Supplier: LCSC; Supplier Part Number: C5713422; Resistance: 39R; Tolerance: 5%; Power: 500mW
footprint RES SMD 1206
pins: 1, 2

## RES 1206 39R 5%_1
designator C?, comment 39R
39R 250mW 200V Thick Film Resistor 5% 1206 Chip Resistor - Surface Mount RoHS; Manufacturer: FOJAN; Manufacturer Part Number: FRQ1206J390 TS; Supplier: LCSC; Supplier Part Number: C51048338; Resistance: 39R; Tolerance: 5%; Voltage Rating: 200V; Power: 250mW
footprint RES SMD 1206
pins: 1, 2

## RES 1206 40k2 1%
designator C?, comment 40k2
40.2kR 1% 250mW 1206 Thick Film Resistor; Manufacturer: FOJAN; Manufacturer Part Number: FRC1206F4022TS; Voltage Rating: 200V; Supplier: LCSC; Supplier Part Number: C5159734; Resistance: 40k2; Tolerance: 1%; Power: 250mW
footprint RES SMD 1206
pins: 1, 2

## RES 1206 40R2 1%
designator C?, comment 40R2
250mW 40.2R 200V Thick Film Resistor 1% 100ppm/â„ƒ 1206 Chip Resistor - Surface Mount RoHS; Manufacturer: FOJAN; Manufacturer Part Number: FRC1206F40R2TS; Supplier: LCSC; Supplier Part Number: C7467465; Resistance: 40R2; Tolerance: 1%; Voltage Rating: 200V; Power: 250mW
footprint RES SMD 1206
pins: 1, 2

## RES 1206 40R2 1%_1
designator C?, comment 40R2
40.2R 1% 500mW 1206 Thick Film Resistor; Manufacturer: FOJAN; Manufacturer Part Number: FRP1206F40R2TSN; Voltage Rating: 200V; Supplier: LCSC; Supplier Part Number: C2934389; Resistance: 40R2; Tolerance: 1%; Power: 500mW
footprint RES SMD 1206
pins: 1, 2

## RES 1206 41R2 1%
designator C?, comment 41R2
41.2R 1% 250mW 1206 Thick Film Resistor; Manufacturer: FOJAN; Manufacturer Part Number: FRC1206F41R2TS; Voltage Rating: 200V; Supplier: LCSC; Supplier Part Number: C2933703; Resistance: 41R2; Tolerance: 1%; Power: 250mW
footprint RES SMD 1206
pins: 1, 2

## RES 1206 42k2 1%
designator C?, comment 42k2
250mW 42.2kR 200V Thick Film Resistor 100ppm/â„ƒ 1% 1206 Chip Resistor - Surface Mount RoHS; Manufacturer: FOJAN; Manufacturer Part Number: FRC1206F4222TS; Supplier: LCSC; Supplier Part Number: C48533706; Resistance: 42k2; Tolerance: 1%; Voltage Rating: 200V; Power: 250mW
footprint RES SMD 1206
pins: 1, 2

## RES 1206 42R2 1%
designator C?, comment 42R2
42.2R 1% 250mW 1206 Thick Film Resistor; Manufacturer: FOJAN; Manufacturer Part Number: FRC1206F42R2TS; Voltage Rating: 200V; Supplier: LCSC; Supplier Part Number: C5126199; Resistance: 42R2; Tolerance: 1%; Power: 250mW
footprint RES SMD 1206
pins: 1, 2

## RES 1206 43k 1%
designator C?, comment 43k
43kR 1% 250mW 1206 Thick Film Resistor; Manufacturer: FOJAN; Manufacturer Part Number: FRC1206F4302TS; Voltage Rating: 200V; Supplier: LCSC; Supplier Part Number: C2930430; Resistance: 43k; Tolerance: 1%; Power: 250mW
footprint RES SMD 1206
pins: 1, 2

## RES 1206 43k 5%
designator C?, comment 43k
43kR 250mW 200V Thick Film Resistor 100ppm/â„ƒ 5% 1206 Chip Resistor - Surface Mount RoHS; Manufacturer: FOJAN; Manufacturer Part Number: FRR1206J433 TS; Supplier: LCSC; Supplier Part Number: C49196851; Resistance: 43k; Tolerance: 5%; Voltage Rating: 200V; Power: 250mW
footprint RES SMD 1206
pins: 1, 2

## RES 1206 43k 5%_1
designator C?, comment 43k
43kR 5% 250mW 1206 Thick Film Resistor; Manufacturer: FOJAN; Manufacturer Part Number: FRC1206J433 TS; Voltage Rating: 200V; Supplier: LCSC; Supplier Part Number: C2907503; Resistance: 43k; Tolerance: 5%; Power: 250mW
footprint RES SMD 1206
pins: 1, 2

## RES 1206 43mR 5%
designator C?, comment 43mR
250mW 43mR Thick Film Resistor 1200ppm/â„ƒ 5% 1206 Chip Resistor - Surface Mount RoHS; Manufacturer: FOJAN; Manufacturer Part Number: FRL1206JR043TS; Supplier: LCSC; Supplier Part Number: C7467495; Resistance: 43mR; Tolerance: 5%; Power: 250mW
footprint RES SMD 1206
pins: 1, 2

## RES 1206 43R2 1%
designator C?, comment 43R2
43.2R 1% 250mW 1206 Thick Film Resistor; Manufacturer: FOJAN; Manufacturer Part Number: FRC1206F43R2TS; Voltage Rating: 200V; Supplier: LCSC; Supplier Part Number: C5204022; Resistance: 43R2; Tolerance: 1%; Power: 250mW
footprint RES SMD 1206
pins: 1, 2

## RES 1206 43R 1%
designator C?, comment 43R
250mW 43R 200V Thick Film Resistor 100ppm/â„ƒ 1% 1206 Chip Resistor - Surface Mount RoHS; Manufacturer: FOJAN; Manufacturer Part Number: FRQ1206F43R0TS; Supplier: LCSC; Supplier Part Number: C49010141; Resistance: 43R; Tolerance: 1%; Voltage Rating: 200V; Power: 250mW
footprint RES SMD 1206
pins: 1, 2

## RES 1206 44k2 1%
designator C?, comment 44k2
44.2kR 1% 250mW 1206 Thick Film Resistor; Manufacturer: FOJAN; Manufacturer Part Number: FRC1206F4422TS; Voltage Rating: 200V; Supplier: LCSC; Supplier Part Number: C5126167; Resistance: 44k2; Tolerance: 1%; Power: 250mW
footprint RES SMD 1206
pins: 1, 2

## RES 1206 45R3 1%
designator C?, comment 45R3
45.3R 1% 250mW 1206 Thick Film Resistor; Manufacturer: FOJAN; Manufacturer Part Number: FRC1206F45R3TS; Voltage Rating: 200V; Supplier: LCSC; Supplier Part Number: C3013257; Resistance: 45R3; Tolerance: 1%; Power: 250mW
footprint RES SMD 1206
pins: 1, 2

## RES 1206 46R4 1%
designator C?, comment 46R4
46.4R 1% 250mW 1206 Thick Film Resistor; Manufacturer: FOJAN; Manufacturer Part Number: FRC1206F46R4TS; Voltage Rating: 200V; Supplier: LCSC; Supplier Part Number: C5153993; Resistance: 46R4; Tolerance: 1%; Power: 250mW
footprint RES SMD 1206
pins: 1, 2

## RES 1206 47k 1%
designator C?, comment 47k
47kR 1% 250mW 1206 Thick Film Resistor; Manufacturer: FOJAN; Manufacturer Part Number: FRC1206F4702TS; Voltage Rating: 200V; Supplier: LCSC; Supplier Part Number: C2933708; Resistance: 47k; Tolerance: 1%; Power: 250mW
footprint RES SMD 1206
pins: 1, 2

## RES 1206 47k 5%
designator C?, comment 47k
47kR 5% 250mW 1206 Thick Film Resistor; Manufacturer: FOJAN; Manufacturer Part Number: FRC1206J473 TS; Voltage Rating: 200V; Supplier: LCSC; Supplier Part Number: C2907507; Resistance: 47k; Tolerance: 5%; Power: 250mW
footprint RES SMD 1206
pins: 1, 2

## RES 1206 47mR 5%
designator C?, comment 47mR
47mR 5% 250mW 1206 Thick Film Resistor; Manufacturer: FOJAN; Manufacturer Part Number: FRL1206JR047TS; Voltage Rating: 500V; Supplier: LCSC; Supplier Part Number: C5713394; Resistance: 47mR; Tolerance: 5%; Power: 250mW
footprint RES SMD 1206
pins: 1, 2

## RES 1206 47R5 1%
designator C?, comment 47R5
250mW 47.5R 200V Thick Film Resistor 100ppm/â„ƒ 1% 1206 Chip Resistor - Surface Mount RoHS; Manufacturer: FOJAN; Manufacturer Part Number: FRC1206F47R5TS; Supplier: LCSC; Supplier Part Number: C22375122; Resistance: 47R5; Tolerance: 1%; Voltage Rating: 200V; Power: 250mW
footprint RES SMD 1206
pins: 1, 2

## RES 1206 47R 1%
designator C?, comment 47R
47R 1% 250mW 1206 Thick Film Resistor; Manufacturer: FOJAN; Manufacturer Part Number: FRC1206F47R0TS; Voltage Rating: 200V; Supplier: LCSC; Supplier Part Number: C2933712; Resistance: 47R; Tolerance: 1%; Power: 250mW
footprint RES SMD 1206
pins: 1, 2

## RES 1206 47R 1%_1
designator C?, comment 47R
250mW 47R 200V Thick Film Resistor 100ppm/â„ƒ 1% 1206 Chip Resistor - Surface Mount RoHS; Manufacturer: FOJAN; Manufacturer Part Number: FRQ1206F47R0TS; Supplier: LCSC; Supplier Part Number: C48533725; Resistance: 47R; Tolerance: 1%; Voltage Rating: 200V; Power: 250mW
footprint RES SMD 1206
pins: 1, 2

## RES 1206 47R 5%
designator C?, comment 47R
250mW 47R 200V Thick Film Resistor 5% 1206 Chip Resistor - Surface Mount RoHS; Manufacturer: FOJAN; Manufacturer Part Number: FRQ1206J470 TS; Supplier: LCSC; Supplier Part Number: C51048114; Resistance: 47R; Tolerance: 5%; Voltage Rating: 200V; Power: 250mW
footprint RES SMD 1206
pins: 1, 2

## RES 1206 47R 5%_1
designator C?, comment 47R
500mW 47R Thick Film Resistor 200ppm/â„ƒ 5% 1206 Chip Resistor - Surface Mount RoHS; Manufacturer: FOJAN; Manufacturer Part Number: FRP1206J470 TS; Supplier: LCSC; Supplier Part Number: C7468097; Resistance: 47R; Tolerance: 5%; Power: 500mW
footprint RES SMD 1206
pins: 1, 2

## RES 1206 49k9 1%
designator C?, comment 49k9
49.9kR 1% 250mW 1206 Thick Film Resistor; Manufacturer: FOJAN; Manufacturer Part Number: FRC1206F4992TS; Voltage Rating: 200V; Supplier: LCSC; Supplier Part Number: C2933714; Resistance: 49k9; Tolerance: 1%; Power: 250mW
footprint RES SMD 1206
pins: 1, 2

## RES 1206 49R9 1%
designator C?, comment 49R9
49.9R 1% 250mW 1206 Thick Film Resistor; Manufacturer: FOJAN; Manufacturer Part Number: FRC1206F49R9TS; Voltage Rating: 200V; Supplier: LCSC; Supplier Part Number: C2907389; Resistance: 49R9; Tolerance: 1%; Power: 250mW
footprint RES SMD 1206
pins: 1, 2

## RES 1206 50mR 1%
designator C?, comment 50mR
50mR 1% 250mW 1206 Thick Film Resistor; Manufacturer: FOJAN; Manufacturer Part Number: FRL1206FR050TS; Voltage Rating: 500V; Supplier: LCSC; Supplier Part Number: C5159739; Resistance: 50mR; Tolerance: 1%; Power: 250mW
footprint RES SMD 1206
pins: 1, 2

## RES 1206 50mR 5%
designator C?, comment 50mR
50mR 5% 250mW 1206 Thick Film Resistor; Manufacturer: FOJAN; Manufacturer Part Number: FRL1206JR050TS; Voltage Rating: 500V; Supplier: LCSC; Supplier Part Number: C2974116; Resistance: 50mR; Tolerance: 5%; Power: 250mW
footprint RES SMD 1206
pins: 1, 2

## RES 1206 51k1 1%
designator C?, comment 51k1
250mW 51.1kR 200V Thick Film Resistor 100ppm/â„ƒ 1% 1206 Chip Resistor - Surface Mount RoHS; Manufacturer: FOJAN; Manufacturer Part Number: FRC1206F5112TS; Supplier: LCSC; Supplier Part Number: C49196892; Resistance: 51k1; Tolerance: 1%; Voltage Rating: 200V; Power: 250mW
footprint RES SMD 1206
pins: 1, 2

## RES 1206 51k 1%
designator C?, comment 51k
51kR 1% 250mW 1206 Thick Film Resistor; Manufacturer: FOJAN; Manufacturer Part Number: FRC1206F5102TS; Voltage Rating: 200V; Supplier: LCSC; Supplier Part Number: C2933722; Resistance: 51k; Tolerance: 1%; Power: 250mW
footprint RES SMD 1206
pins: 1, 2

## RES 1206 51k 5%
designator C?, comment 51k
51kR 5% 250mW 1206 Thick Film Resistor; Manufacturer: FOJAN; Manufacturer Part Number: FRC1206J513 TS; Voltage Rating: 200V; Supplier: LCSC; Supplier Part Number: C2907516; Resistance: 51k; Tolerance: 5%; Power: 250mW
footprint RES SMD 1206
pins: 1, 2

## RES 1206 51mR 1%
designator C?, comment 51mR
250mW 51mR Thick Film Resistor 1200ppm/â„ƒ 1% 1206 Chip Resistor - Surface Mount RoHS; Manufacturer: FOJAN; Manufacturer Part Number: FRL1206FR051TS; Supplier: LCSC; Supplier Part Number: C7467659; Resistance: 51mR; Tolerance: 1%; Power: 250mW
footprint RES SMD 1206
pins: 1, 2

## RES 1206 51mR 5%
designator C?, comment 51mR
250mW 51mR Thick Film Resistor 1200ppm/â„ƒ 5% 1206 Chip Resistor - Surface Mount RoHS; Manufacturer: FOJAN; Manufacturer Part Number: FRL1206JR051TS; Supplier: LCSC; Supplier Part Number: C7467508; Resistance: 51mR; Tolerance: 5%; Power: 250mW
footprint RES SMD 1206
pins: 1, 2

## RES 1206 51R1 1%
designator C?, comment 51R1
51.1R 1% 250mW 1206 Thick Film Resistor; Manufacturer: FOJAN; Manufacturer Part Number: FRC1206F51R1TS; Voltage Rating: 200V; Supplier: LCSC; Supplier Part Number: C3000531; Resistance: 51R1; Tolerance: 1%; Power: 250mW
footprint RES SMD 1206
pins: 1, 2

## RES 1206 51R 1%
designator C?, comment 51R
500mW 51R Thick Film Resistor 200ppm/â„ƒ 1% 1206 Chip Resistor - Surface Mount RoHS; Manufacturer: FOJAN; Manufacturer Part Number: FRP1206F51R0TS; Supplier: LCSC; Supplier Part Number: C7468320; Resistance: 51R; Tolerance: 1%; Power: 500mW
footprint RES SMD 1206
pins: 1, 2

## RES 1206 51R 1%_1
designator C?, comment 51R
51R 1% 250mW 1206 Thick Film Resistor; Manufacturer: FOJAN; Manufacturer Part Number: FRC1206F51R0TS; Voltage Rating: 200V; Supplier: LCSC; Supplier Part Number: C2933724; Resistance: 51R; Tolerance: 1%; Power: 250mW
footprint RES SMD 1206
pins: 1, 2

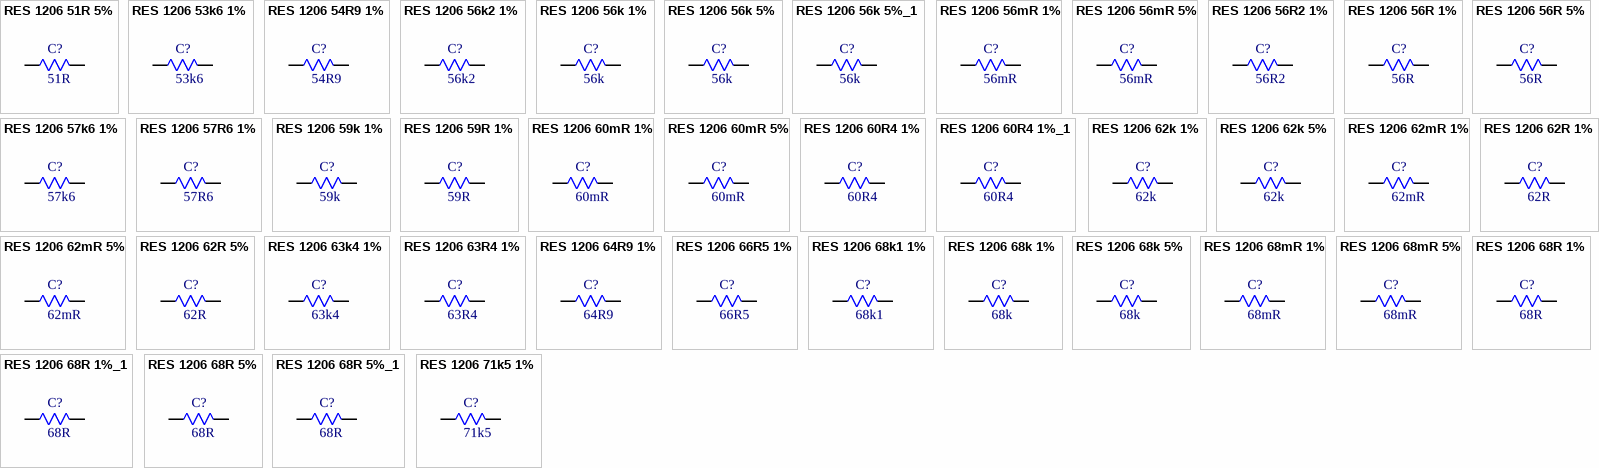
[diagram p71: symbols RES 1206 51R 5% to RES 1206 71k5 1%]

## RES 1206 51R 5%
designator C?, comment 51R
500mW 51R Thick Film Resistor 200ppm/â„ƒ 5% 1206 Chip Resistor - Surface Mount RoHS; Manufacturer: FOJAN; Manufacturer Part Number: FRP1206J510 TS; Supplier: LCSC; Supplier Part Number: C7468138; Resistance: 51R; Tolerance: 5%; Power: 500mW
footprint RES SMD 1206
pins: 1, 2

## RES 1206 53k6 1%
designator C?, comment 53k6
53.6kR 1% 250mW 1206 Thick Film Resistor; Manufacturer: FOJAN; Manufacturer Part Number: FRC1206F5362TS; Voltage Rating: 200V; Supplier: LCSC; Supplier Part Number: C2933726; Resistance: 53k6; Tolerance: 1%; Power: 250mW
footprint RES SMD 1206
pins: 1, 2

## RES 1206 54R9 1%
designator C?, comment 54R9
54.9R 1% 250mW 1206 Thick Film Resistor; Manufacturer: FOJAN; Manufacturer Part Number: FRC1206F54R9TS; Voltage Rating: 200V; Supplier: LCSC; Supplier Part Number: C2933728; Resistance: 54R9; Tolerance: 1%; Power: 250mW
footprint RES SMD 1206
pins: 1, 2

## RES 1206 56k2 1%
designator C?, comment 56k2
56.2kR 1% 250mW 1206 Thick Film Resistor; Manufacturer: FOJAN; Manufacturer Part Number: FRC1206F5622TS; Voltage Rating: 200V; Supplier: LCSC; Supplier Part Number: C2999490; Resistance: 56k2; Tolerance: 1%; Power: 250mW
footprint RES SMD 1206
pins: 1, 2

## RES 1206 56k 1%
designator C?, comment 56k
56kR 1% 250mW 1206 Thick Film Resistor; Manufacturer: FOJAN; Manufacturer Part Number: FRC1206F5602TS; Voltage Rating: 200V; Supplier: LCSC; Supplier Part Number: C2933731; Resistance: 56k; Tolerance: 1%; Power: 250mW
footprint RES SMD 1206
pins: 1, 2

## RES 1206 56k 5%
designator C?, comment 56k
56kR 5% 250mW 1206 Thick Film Resistor; Manufacturer: FOJAN; Manufacturer Part Number: FRC1206J563 TS; Voltage Rating: 200V; Supplier: LCSC; Supplier Part Number: C2907520; Resistance: 56k; Tolerance: 5%; Power: 250mW
footprint RES SMD 1206
pins: 1, 2

## RES 1206 56k 5%_1
designator C?, comment 56k
500mW 56kR Thick Film Resistor 100ppm/â„ƒ 5% 1206 Chip Resistor - Surface Mount RoHS; Manufacturer: FOJAN; Manufacturer Part Number: FPS1206J563 TS; Supplier: LCSC; Supplier Part Number: C42372087; Resistance: 56k; Tolerance: 5%; Power: 500mW
footprint RES SMD 1206
pins: 1, 2

## RES 1206 56mR 1%
designator C?, comment 56mR
250mW 56mR Thick Film Resistor 1200ppm/â„ƒ 1% 1206 Chip Resistor - Surface Mount RoHS; Manufacturer: FOJAN; Manufacturer Part Number: FRL1206FR056TS; Supplier: LCSC; Supplier Part Number: C7467551; Resistance: 56mR; Tolerance: 1%; Power: 250mW
footprint RES SMD 1206
pins: 1, 2

## RES 1206 56mR 5%
designator C?, comment 56mR
56mR 5% 250mW 1206 Thick Film Resistor; Manufacturer: FOJAN; Manufacturer Part Number: FRL1206JR056TS; Voltage Rating: 500V; Supplier: LCSC; Supplier Part Number: C5126011; Resistance: 56mR; Tolerance: 5%; Power: 250mW
footprint RES SMD 1206
pins: 1, 2

## RES 1206 56R2 1%
designator C?, comment 56R2
56.2R 1% 250mW 1206 Thick Film Resistor; Manufacturer: FOJAN; Manufacturer Part Number: FRC1206F56R2TS; Voltage Rating: 200V; Supplier: LCSC; Supplier Part Number: C5126141; Resistance: 56R2; Tolerance: 1%; Power: 250mW
footprint RES SMD 1206
pins: 1, 2

## RES 1206 56R 1%
designator C?, comment 56R
56R 1% 250mW 1206 Thick Film Resistor; Manufacturer: FOJAN; Manufacturer Part Number: FRC1206F56R0TS; Voltage Rating: 200V; Supplier: LCSC; Supplier Part Number: C2930432; Resistance: 56R; Tolerance: 1%; Power: 250mW
footprint RES SMD 1206
pins: 1, 2

## RES 1206 56R 5%
designator C?, comment 56R
56R 5% 250mW 1206 Thick Film Resistor; Manufacturer: FOJAN; Manufacturer Part Number: FRC1206J560 TS; Voltage Rating: 200V; Supplier: LCSC; Supplier Part Number: C2933788; Resistance: 56R; Tolerance: 5%; Power: 250mW
footprint RES SMD 1206
pins: 1, 2

## RES 1206 57k6 1%
designator C?, comment 57k6
57.6kR 1% 250mW 1206 Thick Film Resistor; Manufacturer: FOJAN; Manufacturer Part Number: FRC1206F5762TS; Voltage Rating: 200V; Supplier: LCSC; Supplier Part Number: C2933733; Resistance: 57k6; Tolerance: 1%; Power: 250mW
footprint RES SMD 1206
pins: 1, 2

## RES 1206 57R6 1%
designator C?, comment 57R6
57.6R 1% 250mW 1206 Thick Film Resistor; Manufacturer: FOJAN; Manufacturer Part Number: FRC1206F57R6TS; Voltage Rating: 200V; Supplier: LCSC; Supplier Part Number: C5159736; Resistance: 57R6; Tolerance: 1%; Power: 250mW
footprint RES SMD 1206
pins: 1, 2

## RES 1206 59k 1%
designator C?, comment 59k
59kR 1% 250mW 1206 Thick Film Resistor; Manufacturer: FOJAN; Manufacturer Part Number: FRC1206F5902TS; Voltage Rating: 200V; Supplier: LCSC; Supplier Part Number: C2933735; Resistance: 59k; Tolerance: 1%; Power: 250mW
footprint RES SMD 1206
pins: 1, 2

## RES 1206 59R 1%
designator C?, comment 59R
59R 1% 250mW 1206 Thick Film Resistor; Manufacturer: FOJAN; Manufacturer Part Number: FRC1206F59R0TS; Voltage Rating: 200V; Supplier: LCSC; Supplier Part Number: C2930339; Resistance: 59R; Tolerance: 1%; Power: 250mW
footprint RES SMD 1206
pins: 1, 2

## RES 1206 60mR 1%
designator C?, comment 60mR
60mR 1% 250mW 1206 Thick Film Resistor; Manufacturer: FOJAN; Manufacturer Part Number: FRL1206FR060TS; Voltage Rating: 500V; Supplier: LCSC; Supplier Part Number: C5204043; Resistance: 60mR; Tolerance: 1%; Power: 250mW
footprint RES SMD 1206
pins: 1, 2

## RES 1206 60mR 5%
designator C?, comment 60mR
60mR 5% 250mW 1206 Thick Film Resistor; Manufacturer: FOJAN; Manufacturer Part Number: FRL1206JR060TS; Voltage Rating: 500V; Supplier: LCSC; Supplier Part Number: C5713395; Resistance: 60mR; Tolerance: 5%; Power: 250mW
footprint RES SMD 1206
pins: 1, 2

## RES 1206 60R4 1%
designator C?, comment 60R4
60.4R 1% 250mW 1206 Thick Film Resistor; Manufacturer: FOJAN; Manufacturer Part Number: FRC1206F60R4TS; Voltage Rating: 200V; Supplier: LCSC; Supplier Part Number: C2933738; Resistance: 60R4; Tolerance: 1%; Power: 250mW
footprint RES SMD 1206
pins: 1, 2

## RES 1206 60R4 1%_1
designator C?, comment 60R4
60.4R 1% 250mW 1206 Thick Film Resistor; Manufacturer: FOJAN; Manufacturer Part Number: FRQ1206F60R4TS; Voltage Rating: 200V; Supplier: LCSC; Supplier Part Number: C42372219; Resistance: 60R4; Tolerance: 1%; Power: 250mW
footprint RES SMD 1206
pins: 1, 2

## RES 1206 62k 1%
designator C?, comment 62k
62kR 1% 250mW 1206 Thick Film Resistor; Manufacturer: FOJAN; Manufacturer Part Number: FRC1206F6202TS; Voltage Rating: 200V; Supplier: LCSC; Supplier Part Number: C2933741; Resistance: 62k; Tolerance: 1%; Power: 250mW
footprint RES SMD 1206
pins: 1, 2

## RES 1206 62k 5%
designator C?, comment 62k
62kR 5% 250mW 1206 Thick Film Resistor; Manufacturer: FOJAN; Manufacturer Part Number: FRC1206J623TS; Voltage Rating: 200V; Supplier: LCSC; Supplier Part Number: C2930381; Resistance: 62k; Tolerance: 5%; Power: 250mW
footprint RES SMD 1206
pins: 1, 2

## RES 1206 62mR 1%
designator C?, comment 62mR
62mR 1% 250mW 1206 Thick Film Resistor; Manufacturer: FOJAN; Manufacturer Part Number: FRL1206FR062TS; Voltage Rating: 500V; Supplier: LCSC; Supplier Part Number: C5713393; Resistance: 62mR; Tolerance: 1%; Power: 250mW
footprint RES SMD 1206
pins: 1, 2

## RES 1206 62mR 5%
designator C?, comment 62mR
62mR 5% 250mW 1206 Thick Film Resistor; Manufacturer: FOJAN; Manufacturer Part Number: FRL1206JR062TS; Voltage Rating: 500V; Supplier: LCSC; Supplier Part Number: C3000622; Resistance: 62mR; Tolerance: 5%; Power: 250mW
footprint RES SMD 1206
pins: 1, 2

## RES 1206 62R 1%
designator C?, comment 62R
500mW 62R Thick Film Resistor 200ppm/â„ƒ 1% 1206 Chip Resistor - Surface Mount RoHS; Manufacturer: FOJAN; Manufacturer Part Number: FRP1206F62R0TS; Supplier: LCSC; Supplier Part Number: C7468371; Resistance: 62R; Tolerance: 1%; Power: 500mW
footprint RES SMD 1206
pins: 1, 2

## RES 1206 62R 5%
designator C?, comment 62R
62R 5% 250mW 1206 Thick Film Resistor; Manufacturer: FOJAN; Manufacturer Part Number: FRD1206J620 TS; Voltage Rating: 200V; Supplier: LCSC; Supplier Part Number: C2934241; Resistance: 62R; Tolerance: 5%; Power: 250mW
footprint RES SMD 1206
pins: 1, 2

## RES 1206 63k4 1%
designator C?, comment 63k4
63.4kR 1% 250mW 1206 Thick Film Resistor; Manufacturer: FOJAN; Manufacturer Part Number: FRC1206F6342TS; Voltage Rating: 200V; Supplier: LCSC; Supplier Part Number: C5153981; Resistance: 63k4; Tolerance: 1%; Power: 250mW
footprint RES SMD 1206
pins: 1, 2

## RES 1206 63R4 1%
designator C?, comment 63R4
63.4R 1% 250mW 1206 Thick Film Resistor; Manufacturer: FOJAN; Manufacturer Part Number: FRC1206F63R4TS; Voltage Rating: 200V; Supplier: LCSC; Supplier Part Number: C2933744; Resistance: 63R4; Tolerance: 1%; Power: 250mW
footprint RES SMD 1206
pins: 1, 2

## RES 1206 64R9 1%
designator C?, comment 64R9
64.9R 1% 250mW 1206 Thick Film Resistor; Manufacturer: FOJAN; Manufacturer Part Number: FRC1206F64R9TS; Voltage Rating: 200V; Supplier: LCSC; Supplier Part Number: C2933745; Resistance: 64R9; Tolerance: 1%; Power: 250mW
footprint RES SMD 1206
pins: 1, 2

## RES 1206 66R5 1%
designator C?, comment 66R5
66.5R 1% 250mW 1206 Thick Film Resistor; Manufacturer: FOJAN; Manufacturer Part Number: FRC1206F66R5TS; Voltage Rating: 200V; Supplier: LCSC; Supplier Part Number: C2960692; Resistance: 66R5; Tolerance: 1%; Power: 250mW
footprint RES SMD 1206
pins: 1, 2

## RES 1206 68k1 1%
designator C?, comment 68k1
68.1kR 1% 250mW 1206 Thick Film Resistor; Manufacturer: FOJAN; Manufacturer Part Number: FRC1206F6812TS; Voltage Rating: 200V; Supplier: LCSC; Supplier Part Number: C2999496; Resistance: 68k1; Tolerance: 1%; Power: 250mW
footprint RES SMD 1206
pins: 1, 2

## RES 1206 68k 1%
designator C?, comment 68k
68kR 1% 250mW 1206 Thick Film Resistor; Manufacturer: FOJAN; Manufacturer Part Number: FRC1206F6802TS; Voltage Rating: 200V; Supplier: LCSC; Supplier Part Number: C2933748; Resistance: 68k; Tolerance: 1%; Power: 250mW
footprint RES SMD 1206
pins: 1, 2

## RES 1206 68k 5%
designator C?, comment 68k
68kR 5% 250mW 1206 Thick Film Resistor; Manufacturer: FOJAN; Manufacturer Part Number: FRC1206J683 TS; Voltage Rating: 200V; Supplier: LCSC; Supplier Part Number: C2907529; Resistance: 68k; Tolerance: 5%; Power: 250mW
footprint RES SMD 1206
pins: 1, 2

## RES 1206 68mR 1%
designator C?, comment 68mR
68mR 250mW Thick Film Resistor 600ppm/â„ƒ 1% 1206 Chip Resistor - Surface Mount RoHS; Manufacturer: FOJAN; Manufacturer Part Number: FRL1206FR068TS; Supplier: LCSC; Supplier Part Number: C7467622; Resistance: 68mR; Tolerance: 1%; Power: 250mW
footprint RES SMD 1206
pins: 1, 2

## RES 1206 68mR 5%
designator C?, comment 68mR
68mR 5% 250mW 1206 Thick Film Resistor; Manufacturer: FOJAN; Manufacturer Part Number: FRL1206JR068TS; Voltage Rating: 500V; Supplier: LCSC; Supplier Part Number: C2974117; Resistance: 68mR; Tolerance: 5%; Power: 250mW
footprint RES SMD 1206
pins: 1, 2

## RES 1206 68R 1%
designator C?, comment 68R
68R 1% 250mW 1206 Thick Film Resistor; Manufacturer: FOJAN; Manufacturer Part Number: FRC1206F68R0TS; Voltage Rating: 200V; Supplier: LCSC; Supplier Part Number: C2930011; Resistance: 68R; Tolerance: 1%; Power: 250mW
footprint RES SMD 1206
pins: 1, 2

## RES 1206 68R 1%_1
designator C?, comment 68R
250mW 68R 200V Thick Film Resistor 100ppm/â„ƒ 1% 1206 Chip Resistor - Surface Mount RoHS; Manufacturer: FOJAN; Manufacturer Part Number: FRQ1206F68R0TS; Supplier: LCSC; Supplier Part Number: C49010138; Resistance: 68R; Tolerance: 1%; Voltage Rating: 200V; Power: 250mW
footprint RES SMD 1206
pins: 1, 2

## RES 1206 68R 5%
designator C?, comment 68R
68R 5% 250mW 1206 Thick Film Resistor; Manufacturer: FOJAN; Manufacturer Part Number: FRC1206J680 TS; Voltage Rating: 200V; Supplier: LCSC; Supplier Part Number: C2907530; Resistance: 68R; Tolerance: 5%; Power: 250mW
footprint RES SMD 1206
pins: 1, 2